# EAGLE library part LP3981 (library IC)
National Semiconductor 300mA low-dropout CMOS voltage regulator
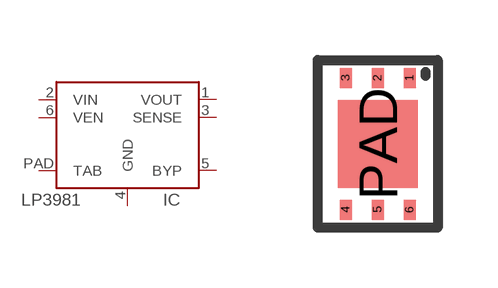
[diagram p51: symbol with the pads of LLP-6; footprint LLP-6]

Designator prefix IC

## LP3981-LLP-6  [LLP-6]
1  VOUT  pwr
2  VIN  pwr
3  SENSE
4  GND  pwr
5  BYP
6  VEN
PAD  TAB

## Footprint LLP-6 (pad centres in mm)
LLP-6 package
smd 0.3 x 0.5: 1 0.8,1.65; 2 0,1.65; 3 -0.8,1.65; 4 -0.8,-1.65; 5 0,-1.65; 6 0.8,-1.65
smd 2 x 2.2: PAD 0,0